# EAGLE library part LMV762MM (library LMV762MM)
Low Voltage, Precision Comparator
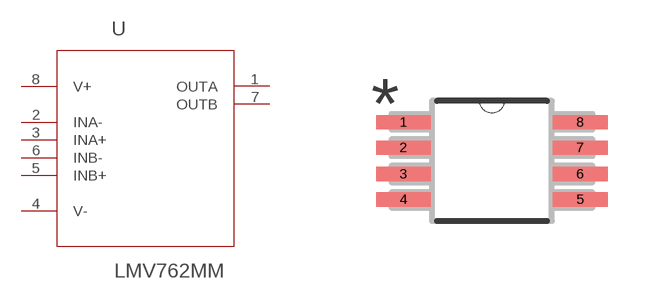
[diagram p0: symbol with the pads of SOP65P490X110-8N; footprint SOP65P490X110-8N]

Designator prefix U

## LMV762MM (AVAILABILITY: Good; DESCRIPTION: Low Voltage, Precision Comparator with Push-Pull Output 8-VSSOP -40 to 125; MANUFACTURER: Texas Instruments; MPN: LMV762MM/NOPB; PACKAGE: MSOP-8 Texas Instruments; PRICE: 1.26 USD)  [SOP65P490X110-8N]
1  OUTA  out
2  INA-  in
3  INA+  in
4  V-  pwr
5  INB+  in
6  INB-  in
7  OUTB  out
8  V+  pwr

## Footprint SOP65P490X110-8N (pad centres in mm)
smd 1.372 x 0.356: 1 -2.21,0.965; 2 -2.21,0.33; 3 -2.21,-0.33; 4 -2.21,-0.965; 5 2.21,-0.965; 6 2.21,-0.33; 7 2.21,0.33; 8 2.21,0.965